# Altium footprint library PCB - CONNECTOR - JST - JST XH B5B-XH-A.PCBLIB: 1 footprints
Each footprint in its own frame and in the unit in brackets; x right, y up, seen from the top. Pads: shape width x height; smd on the part's side, far side on the other; paste and mask are expansions set on the pad; w line width, h text height; cw(c..) or ccw(c..) is an arc to the next point about the centre after c.
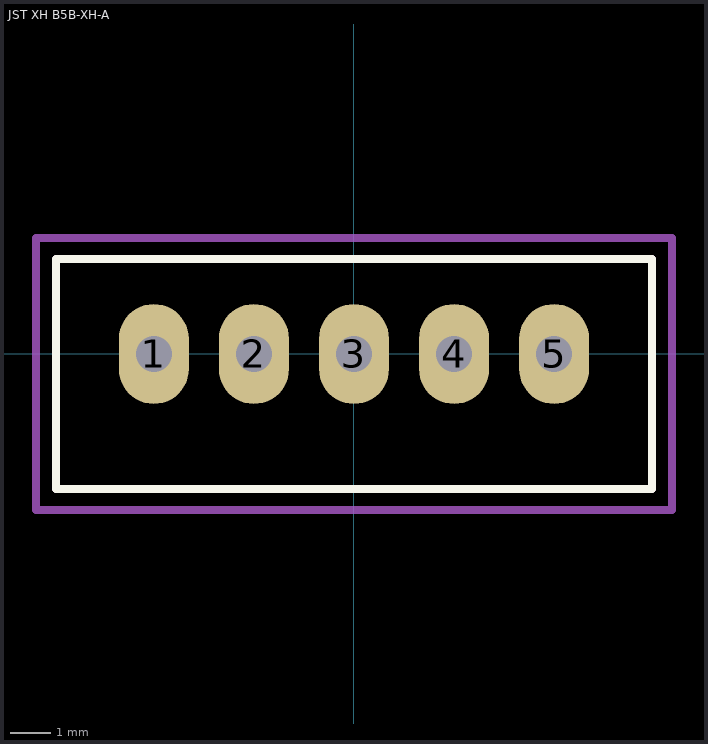
[diagram p0: the footprint, top view; thin cyan lines are the x and y axes]

## JST XH B5B-XH-A [mm]
height 7
pads (5):
  oval 1.75x2.5 hole 0.9: 1(-5,0) 2(-2.5,0) 3(0,0) 4(2.5,0) 5(5,0)
Top Overlay:
  lines w0.2: -7.45,-3.375 7.45,-3.375 7.45,2.375 -7.45,2.375 -7.45,-3.375
Mechanical 1:
  lines w0.2: -7.45,-3.375 -7.45,2.375 7.45,2.375 7.45,-3.375 -7.45,-3.375
Mechanical 15:
  lines w0.2: -0.5,0 0.5,0 ; 0,-0.5 0,0.5 ; -7.95,-3.9 7.95,-3.9 7.95,2.9 -7.95,2.9 -7.95,-3.9
3D body "JST B5B-XH-A.STEP": height 7, standoff -3.4, extent -7.45,-3.375 7.45,2.375